# Altium footprint library SOT95P280X100-6N.PcbLib: 1 footprints
Each footprint in its own frame and in the unit in brackets; x right, y up, seen from the top. Pads: shape width x height; smd on the part's side, far side on the other; paste and mask are expansions set on the pad; w line width, h text height; cw(c..) or ccw(c..) is an arc to the next point about the centre after c.
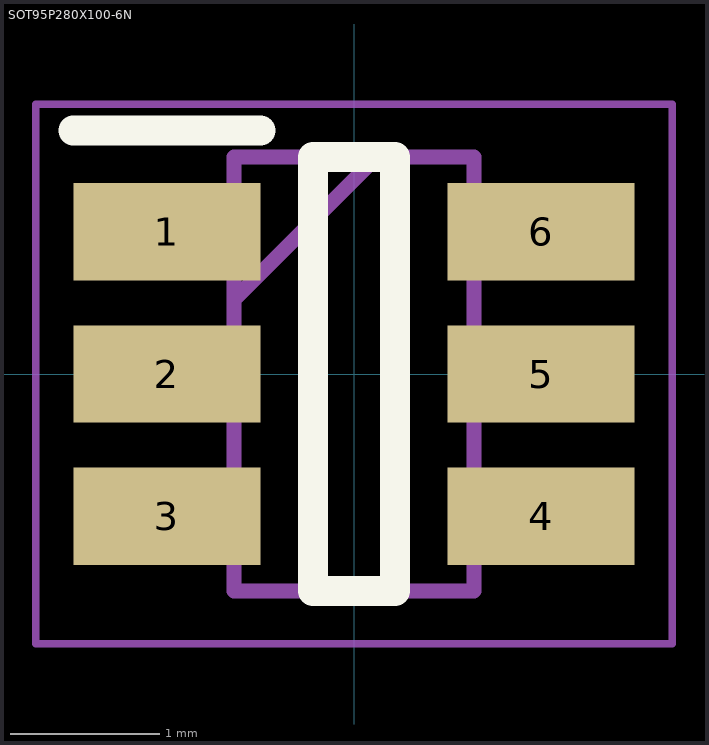
[diagram p0: the footprint, top view; thin cyan lines are the x and y axes]

## SOT95P280X100-6N [mm]
pads (6):
  rect 1.25x0.65 smd: 1(-1.25,0.95) 2(-1.25,0) 3(-1.25,-0.95) 4(1.25,-0.95) 5(1.25,0) 6(1.25,0.95)
Top Overlay:
  lines w0.2: -1.875,1.625 -0.625,1.625 ; -0.275,-1.448 0.275,-1.448 0.275,1.448 -0.275,1.448 -0.275,-1.448
Mechanical 15:
  lines w0.1: -0.8,0.498 0.15,1.448 ; -0.8,-1.448 0.8,-1.448 0.8,1.448 -0.8,1.448 -0.8,-1.448
Mechanical 20:
  lines w0.05: -2.125,-1.8 2.125,-1.8 2.125,1.8 -2.125,1.8 -2.125,-1.8